# Altium footprint library PAL3.PcbLib: 145 footprints (part 7 of 10)
Each footprint in its own frame and in the unit in brackets; x right, y up, seen from the top. Pads: shape width x height; smd on the part's side, far side on the other; paste and mask are expansions set on the pad; w line width, h text height; cw(c..) or ccw(c..) is an arc to the next point about the centre after c.
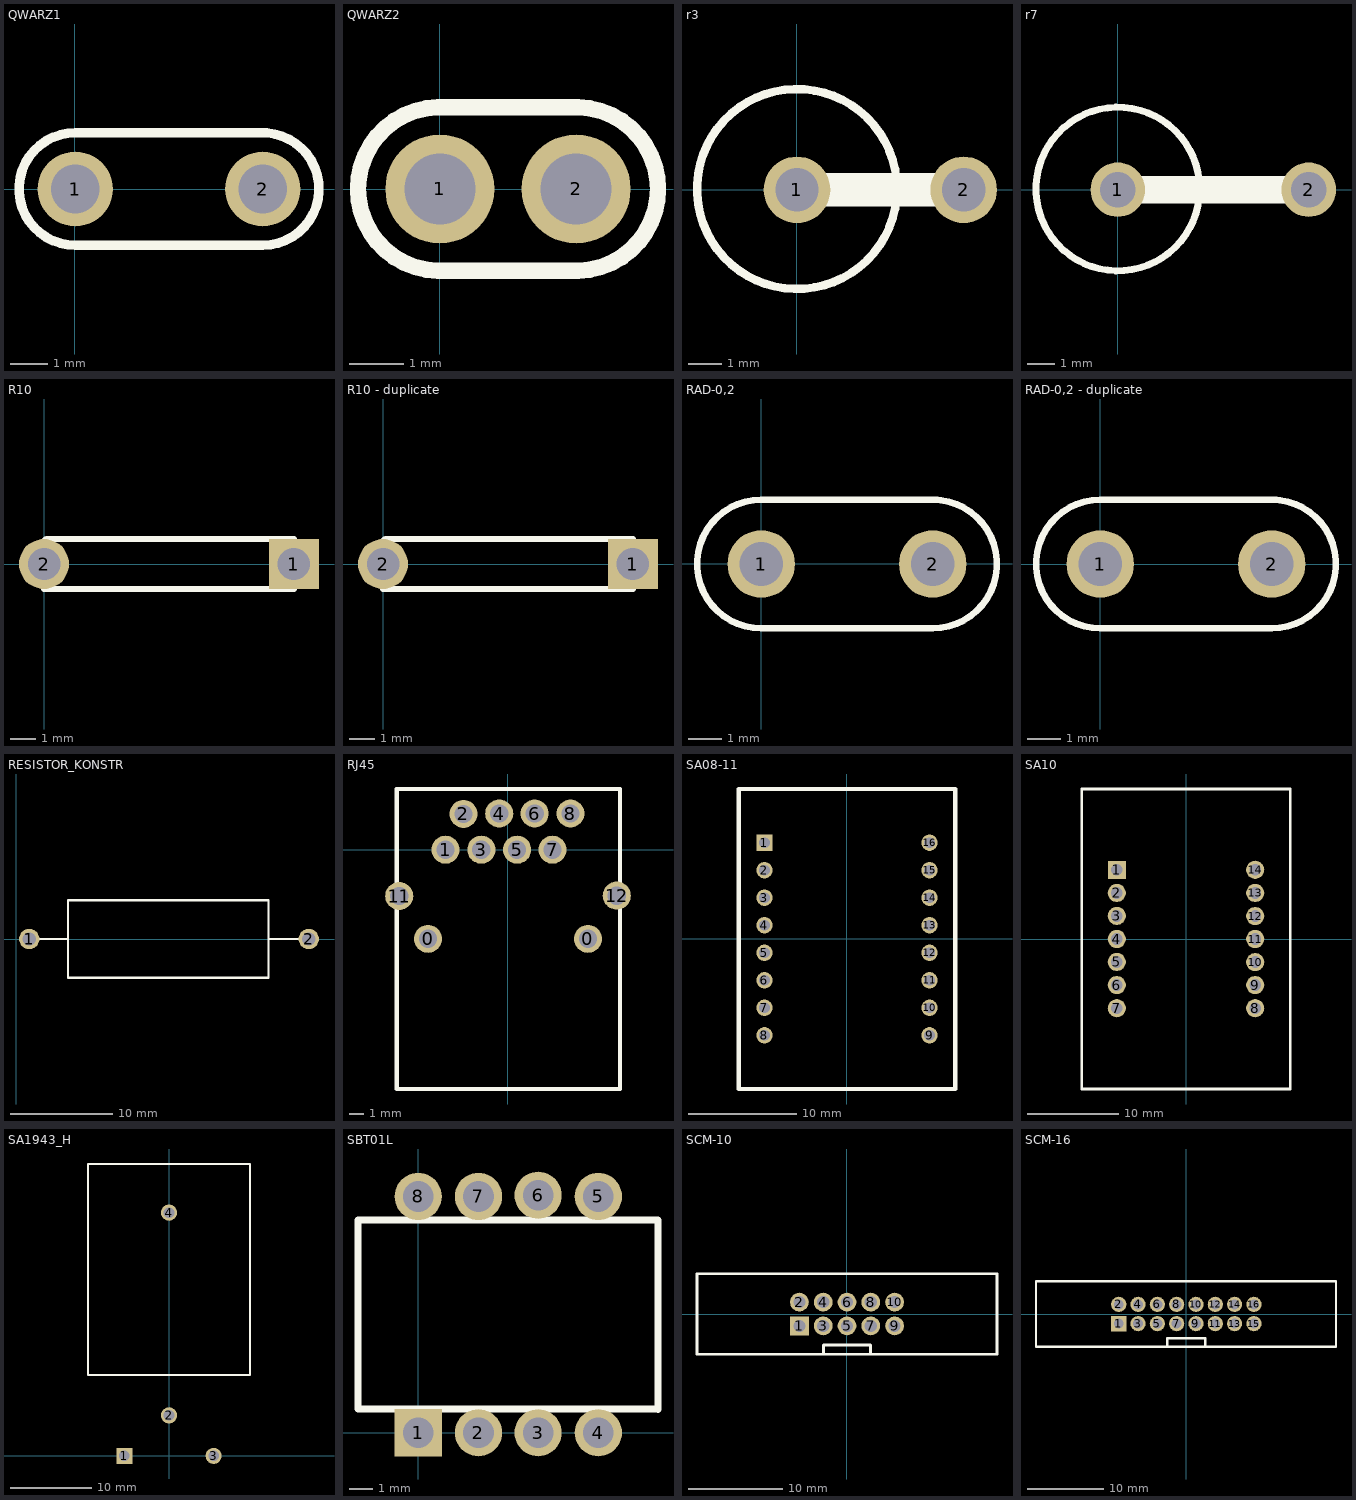
[diagram p6: the footprints below, top view; thin cyan lines are the x and y axes]

## QWARZ1 [mm]
pads (2):
  round 2 hole 1.3: 1(0.008,0) 2(5.008,0)
Top Overlay:
  lines w0.254: 4.908,1.497 cw(c5.008,0) 5.008,-1.5 0.008,-1.5 cw(c0.008,0) 0.008,1.5 5.008,1.5

## QWARZ2 [mm]
pads (2):
  round 2 hole 1.3: 1(0.001,0.005) 2(2.501,0.005)
Top Overlay:
  lines w0.3: -0.039,-1.495 cw(c0.001,0.005) -0.039,1.505 2.541,1.505 cw(c2.501,0.005) 2.541,-1.495 -0.039,-1.495

## r3 [mm]
pads (2):
  round 2 hole 1.3: 1(0,0) 2(5,0)
Top Overlay:
  circle w0.254: c0,0.025 r3
  lines w1: 0,0 5,0

## r7 [mm]
pads (2):
  round 2 hole 1.3: 1(0,0) 2(7,0)
Top Overlay:
  circle w0.254: c0,0.025 r3
  lines w1: 0,0 7,0

## R10 [mm]
pads (2):
  rect 2x2 hole 1.3: 1(9.998,0.003)
  round 2 hole 1.3: 2(-0.002,0.003)
Top Overlay:
  lines w0.254: -0.002,-0.997 9.998,-0.997 9.998,1.003 0.098,1.003 -0.002,0.903 -0.002,0.003 -0.002,-0.997

## R10 - duplicate [mm]
pads (2):
  rect 2x2 hole 1.3: 1(9.998,0.003)
  round 2 hole 1.3: 2(-0.002,0.003)
Top Overlay:
  lines w0.254: -0.002,-0.997 -0.002,0.003 -0.002,0.903 0.098,1.003 9.998,1.003 9.998,-0.997 -0.002,-0.997

## RAD-0,2 [mm]
pads (2):
  round 2 hole 1.3: 1(-0.006,-0.008) 2(5.074,-0.008)
Top Overlay:
  lines w0.2: 5.074,1.897 cw(c5.074,-0.008) 5.074,-1.913 -0.006,-1.913 cw(c-0.006,-0.008) -0.006,1.897 5.201,1.897

## RAD-0,2 - duplicate [mm]
pads (2):
  round 2 hole 1.3: 1(0.002,0) 2(5.082,0)
Top Overlay:
  lines w0.2: 5.082,1.905 cw(c5.082,0) 5.082,-1.905 0.002,-1.905 cw(c0.002,0) 0.002,1.905 5.209,1.905

## RESISTOR_KONSTR [mm]
pads (2):
  round 2 hole 1.3: 1(1.253,0.005) 2(28.753,0.005)
Top Overlay:
  lines w0.2: 1.253,0.005 5.083,0.005 ; 28.753,0.005 24.768,0.005 ; 5.083,0.005 5.083,3.815 24.768,3.815 24.768,0.005 ; 5.083,0.005 5.083,-3.805 24.768,-3.805 24.768,0.005

## RJ45 [mm]
pads (12):
  round 2 hole 1.3: 0(-5.693,-6.355) 0(5.707,-6.355) 1(-4.443,-0.005) 2(-3.168,2.545) 3(-1.893,-0.005) 4(-0.618,2.57) 5(0.657,-0.005) 6(1.907,2.57) 7(3.182,-0.005) 8(4.457,2.57) 11(-7.743,-3.305) 12(7.757,-3.28)
Top Overlay:
  lines w0.3: -7.943,4.32 7.982,4.32 7.982,-17.055 -7.918,-17.055 -7.918,4.295 -7.943,4.32

## SA08-11 [mm]
pads (16):
  rect 1.5x1.5 hole 1: 1(-7.609,8.882)
  round 1.5 hole 1: 2(-7.609,6.342) 3(-7.609,3.802) 4(-7.609,1.262) 5(-7.609,-1.278) 6(-7.609,-3.818) 7(-7.609,-6.358) 8(-7.609,-8.898) 9(7.631,-8.898) 10(7.631,-6.358) 11(7.631,-3.818) 12(7.631,-1.278) 13(7.631,1.262) 14(7.631,3.802) 15(7.631,6.342) 16(7.631,8.882)
Top Overlay:
  lines w0.4: -9.989,-13.858 -9.989,13.842 10.011,13.842 10.011,-13.858 -9.989,-13.858

## SA10 [mm]
pads (14):
  rect 2x2 hole 1.3: 1(-7.62,7.62)
  round 2 hole 1.3: 2(-7.625,5.075) 3(-7.625,2.55) 4(-7.625,0) 5(-7.625,-2.525) 6(-7.625,-5.075) 7(-7.625,-7.625) 8(7.625,-7.625) 9(7.625,-5.075) 10(7.625,-2.55) 11(7.625,0) 12(7.625,2.525) 13(7.625,5.075) 14(7.625,7.625)
Top Overlay:
  lines w0.3: -11.5,-16.525 0,-16.525 11.5,-16.525 11.5,0 11.5,16.525 0,16.525 -11.5,16.525 -11.5,0 -11.5,-16.525

## SA1943_H [mm]
pads (4):
  rect 2x2 hole 1.3: 1(-5.5,0)
  round 2 hole 1.3: 2(0,5) 3(5.5,0) 4(0,30)
Top Overlay:
  lines w0.254: -10,10 0,10 10,10 10,36 -10,36 -10,10

## SBT01L [mm]
pads (8):
  rect 2x2 on Top hole 1.3: 1(0,0)
  round 2 on Top hole 1.3: 2(2.55,0) 3(5.075,0) 4(7.625,0) 5(7.625,10) 6(5.075,10.05) 7(2.55,10) 8(0,10)
Top Overlay:
  lines w0.3: -0.05,1 10.125,1 10.15,0.975 10.15,1.05 10.15,9 -2.55,9 -2.55,1 0,1

## SCM-10 [mm]
pads (10):
  rect 2x2 hole 1.3: 1(-5.074,-1.261)
  round 2 hole 1.3: 2(-5.074,1.279) 3(-2.534,-1.261) 4(-2.534,1.279) 5(0.006,-1.261) 6(0.006,1.279) 7(2.546,-1.261) 8(2.546,1.279) 9(5.086,-1.261) 10(5.086,1.279)
Top Overlay:
  lines w0.3: -2.494,-4.291 -2.494,-3.291 2.506,-3.291 2.506,-4.291 ; -15.994,-4.291 -15.994,0.009 -15.994,4.309 16.006,4.309 16.006,-4.291 -15.994,-4.291

## SCM-16 [mm]
pads (16):
  rect 2x2 hole 1.3: 1(-8.889,-1.266)
  round 2 hole 1.3: 2(-8.889,1.274) 3(-6.349,-1.266) 4(-6.349,1.274) 5(-3.809,-1.266) 6(-3.809,1.274) 7(-1.269,-1.266) 8(-1.269,1.274) 9(1.271,-1.266) 10(1.271,1.274) 11(3.811,-1.266) 12(3.811,1.274) 13(6.351,-1.266) 14(6.351,1.274) 15(8.891,-1.266) 16(8.891,1.274)
Top Overlay:
  lines w0.3: -2.499,-4.169 -2.499,-3.169 2.501,-3.169 2.501,-4.169 ; -19.769,-4.296 19.686,-4.314 19.686,4.322 -19.769,4.304 -19.769,0.004 -19.769,-4.296